# EAGLE library part LM4766T (library 0SBLib)
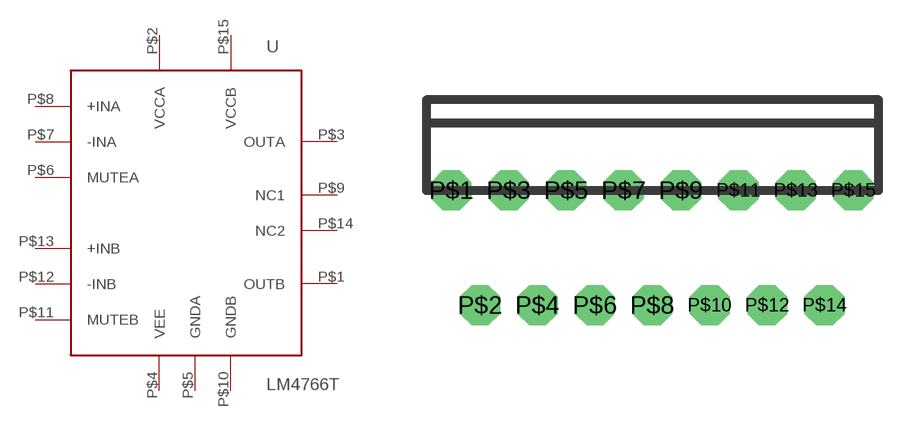
[diagram p22: symbol with the pads of TO-220_15; footprint TO-220_15]

Designator prefix -

## LM4766T  [TO-220_15]
P$1  OUTB
P$2  VCCA
P$3  OUTA
P$4  VEE
P$5  GNDA
P$6  MUTEA
P$7  -INA
P$8  +INA
P$9  NC1
P$10  GNDB
P$11  MUTEB
P$12  -INB
P$13  +INB
P$14  NC2
P$15  VCCB

## Footprint TO-220_15 (pad centres in mm)
drill 0.8 pad 1.778 octagon: P$1 0,0; P$2 1.27,-5.08; P$3 2.54,0; P$4 3.81,-5.08; P$5 5.08,0; P$6 6.35,-5.08; P$7 7.62,0; P$8 8.89,-5.08; P$9 10.16,0; P$10 11.43,-5.08; P$11 12.7,0; P$12 13.97,-5.08; P$13 15.24,0; P$14 16.51,-5.08; P$15 17.78,0